# Altium integrated library CL21A105KBCLNNC.IntLib: 1 symbol
Pins are listed as number, name and electrical type; pins without a type are passive.

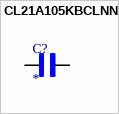
[diagram p0: symbol CL21A105KBCLNNC]

## CL21A105KBCLNNC
designator C?
1 ÂµF Â±10% 50V Ceramic Capacitor X5R 0805 (2012 Metric); MF: Samsung; MP: CL21A105KBCLNNC; SnapEDA_Link: https://www.snapeda.com/parts/CL21A105KBCLNNC/Samsung/view-part/?ref=snap; Package: SMD-2 Samsung; Value: *; Check_prices: https://www.snapeda.com/parts/CL21A105KBCLNNC/Samsung/view-part/?ref=eda
footprint CAPC2012X95N
pins: 1, 2